# EAGLE library part FTDI_BASIC (library quadparts_prebuilt_2022)
FTDI (USB-serial converter) header bins with labels.
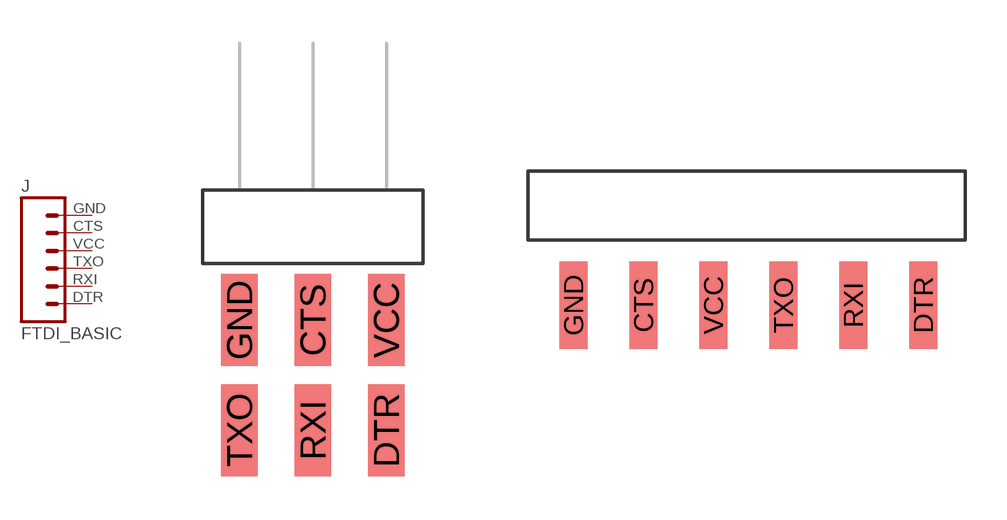
[diagram p2: symbol with the pads of FTDI-2X3-SMD; footprints FTDI-2X3-SMD, FTDI-BASIC-SMD]

Designator prefix J

## FTDI_BASIC-2X3-SMD (CREATOR: Swanson; DIST: DIGIKEY; DISTPN: SAM9026-ND; MOUNTING: SMD)  [FTDI-2X3-SMD]
CTS  5  pas
DTR  1  pas
GND  6  pas
RXI  2  pas
TXO  3  pas
VCC  4  pas

## FTDI_BASIC-SMD-REV (CREATOR: Swanson; DESC: CONN HEADER SMD R/A 6POS 2.54MM; DIST: DIGIKEY; DISTPN: 952-3235-ND; LEFT_PIN: G; MFR: Harwin Inc.; MOUNTING: SMD; MPN: M20-8890645; RIGHT_PIN: B)  [FTDI-BASIC-SMD]
CTS  2  pas
DTR  6  pas
GND  1  pas
RXI  5  pas
TXO  4  pas
VCC  3  pas

## FTDI_BASIC-SMD (CREATOR: Swanson; DESC: CONN HEADER SMD R/A 6POS 2.54MM; DIST: DIGIKEY; DISTPN: 952-3235-ND; LEFT_PIN: B; MFR: Harwin Inc.; MOUNTING: SMD; MPN: M20-8890645; RIGHT_PIN: G)  [FTDI-BASIC-SMD]
Pads as for FTDI-2X3-SMD

## FTDI_BASICPTH (CREATOR: Swanson; DATASHEET: http://portal.fciconnect.com/Comergent//fci/drawing/68015.pdf; DIST: Digikey; DISTPN: 609-3327-ND; MFR: Amphenol FCI; MOUNTING: TH; MPN: 68016-406HLF; PRICE: 0.33; REVIEWER: Swanson)  [FTDI_BASIC]
Pads as for FTDI-2X3-SMD

## Footprint FTDI-2X3-SMD (pad centres in mm)
smd 1.27 x 3.18: CTS 0,-4.496; DTR 2.54,-8.306; GND -2.54,-4.496; RXI 0,-8.306; TXO -2.54,-8.306; VCC 2.54,-4.496

## Footprint FTDI-BASIC-SMD (pad centres in mm)
smd 1.02 x 3.17: CTS -3.81,0.635; DTR 6.35,0.635; GND -6.35,0.635; RXI 3.81,0.635; TXO 1.27,0.635; VCC -1.27,0.635

## Footprint FTDI_BASIC (pad centres in mm)
drill 1.016 pad 1.88: CTS 3.81,0; DTR -6.35,0; GND 6.35,0; RXI -3.81,0; TXO -1.27,0; VCC 1.27,0